# Altium schematic symbol library Inductors-1008.SchLib: 3 symbols
Pins are listed as number, name and electrical type; pins without a type are passive.

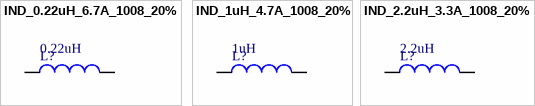
[diagram p0: symbols IND_0.22uH_6.7A_1008_20% to IND_2.2uH_3.3A_1008_20%]

## IND_0.22uH_6.7A_1008_20%
designator L?, comment 0.22uH
0.22uH 20% 6.7A 1008; PartNumber: TFM252012ALMAR22MTAA; Manufacturer: Murata; PackageReference: 1008; PackageDescription: 1008 (2520 metric); Mounting Technology: Surface Mount; Current: 6.7A; Value: 0.22uH
simulation model INDUCTOR (Inductor)
signal-integrity model Inductor
footprint IND1008 (Chip Inductor Body 2.5x2.0mm)
pins: 1, 2

## IND_1uH_4.7A_1008_20%
designator L?, comment 1uH
1uH 20% 4.7A 1008; PartNumber: DFE252012F-2R2M=P2; Manufacturer: Murata; PackageReference: 1008; PackageDescription: 1008 (2520 metric); Mounting Technology: Surface Mount; Current: 4.7A; Value: 1uH
simulation model INDUCTOR (Inductor)
signal-integrity model Inductor
footprint IND1008 (Chip Inductor Body 2.5x2.0mm)
pins: 1, 2

## IND_2.2uH_3.3A_1008_20%
designator L?, comment 2.2uH
2.2uH 20% 3.3A 1008; PartNumber: DFE252012F-2R2M=P2; Manufacturer: Murata; PackageReference: 1008; PackageDescription: 1008 (2520 metric); Mounting Technology: Surface Mount; Current: 3.3A; Value: 2.2uH
simulation model INDUCTOR (Inductor)
signal-integrity model Inductor
footprint IND1008 (Chip Inductor Body 2.5x2.0mm)
pins: 1, 2